# Altium footprint library SWITCH.PcbLib: 1 footprints
Each footprint in its own frame and in the unit in brackets; x right, y up, seen from the top. Pads: shape width x height; smd on the part's side, far side on the other; paste and mask are expansions set on the pad; w line width, h text height; cw(c..) or ccw(c..) is an arc to the next point about the centre after c.
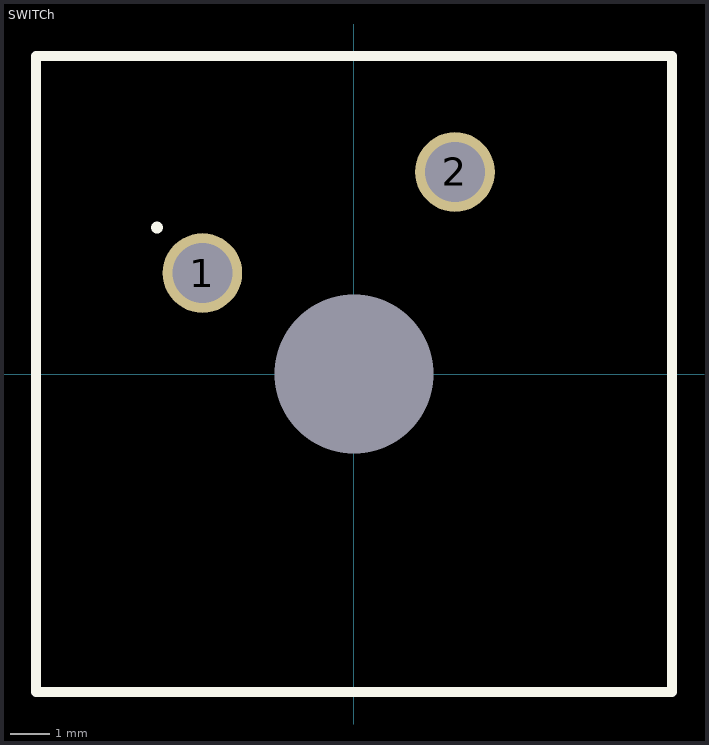
[diagram p0: the footprint, top view; thin cyan lines are the x and y axes]

## SWITCh [mm]
pads (3):
  round 2 hole 1.5 paste-2539.97: 1(-3.81,2.54) 2(2.54,5.08)
  round 0 hole 4 unplated: 3(0,0)
Top Overlay:
  circle w0.3: c-4.953,3.683 r0
  lines w0.254: -7.999,-7.999 8.001,-7.999 8.001,8.001 -7.999,8.001 -7.999,-7.999
3D body "User Library-cherry mx.STEP": height 15.3, standoff -2.55, extent -7.82,-8.165 7.82,8.165